# EAGLE library part STD043F11X1 (library con-pinheader-standard)
female standard header 2mm, 4.3mm height
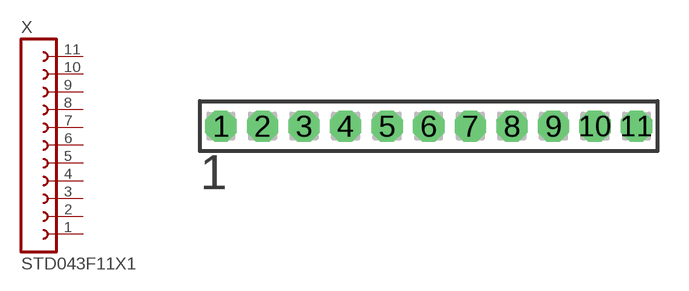
[diagram p5: symbol with the pads of STD043F11X1-2.00; footprint STD043F11X1-2.00]

Designator prefix X

## STD043F11X1-2.00MM (OC_FARNELL: unknown; OC_NEWARK: unknown)  [STD043F11X1-2.00]
1  1  pas
2  2  pas
3  3  pas
4  4  pas
5  5  pas
6  6  pas
7  7  pas
8  8  pas
9  9  pas
10  10  pas
11  11  pas

## Footprint STD043F11X1-2.00 (pad centres in mm)
female standard header 2mm, 4.3mm height
drill 0.8 pad 1.5 octagon: 1 -10,0; 2 -8,0; 3 -6,0; 4 -4,0; 5 -2,0; 6 0,0; 7 2,0; 8 4,0; 9 6,0; 10 8,0; 11 10,0